# Altium schematic symbol library Interface_ICs.SchLib: 17 symbols
Pins are listed as number, name and electrical type; pins without a type are passive.

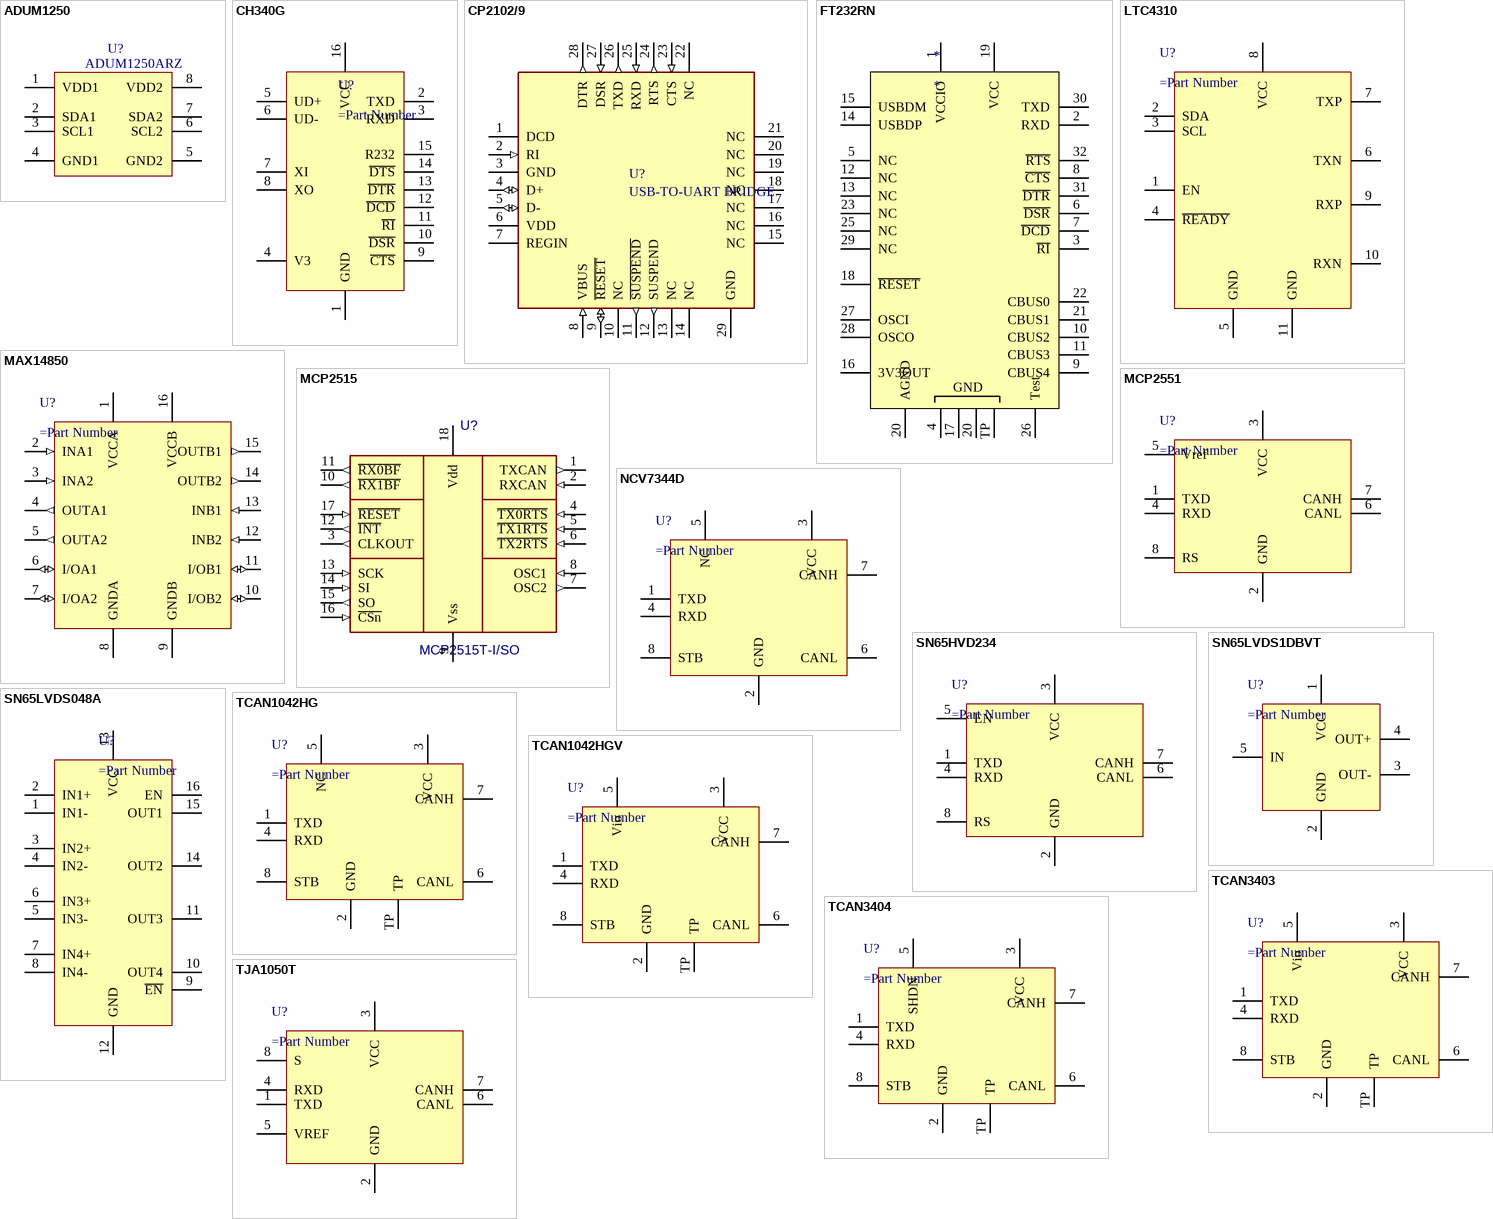
[diagram p0: symbols ADUM1250 to TJA1050T]

## ADUM1250
designator U?, comment ADUM1250ARZ
pins: 1 VDD1, 2 SDA1, 3 SCL1, 4 GND1, 5 GND2, 6 SCL2, 7 SDA2, 8 VDD2

## CH340G
designator U?
pins: 1 GND, 2 TXD, 3 RXD, 4 V3, 5 UD+, 6 UD-, 7 XI, 8 XO, 9 ~{CTS}, 10 ~{DSR}, 11 ~{RI}, 12 ~{DCD}, 13 ~{DTR}, 14 ~{DTS}, 15 R232, 16 VCC

## CP2102/9
designator U?, comment USB-TO-UART BRIDGE
Voltage - Supply 3V ~ 3.6V / Current - Supply 20mA / Standards USB 2.0; Manufacturer: Silicon Lab; Supplier 1: Digi-Key; Supplier Part Number 1: 336-1160-1-ND; Case: QFN-28
footprint QFN50P480X480X80_HS-29N (QFN, 28-Leads, Body 4,80x4,80mm, Pitch 0,50mm, Thermal Pad 3,25x3,25mm, IPC Medium Density)
pins: 1 DCD, 2 RI (in) "Active low", 3 GND (power), 4 D+ (io), 5 D- (io), 6 VDD (power), 7 REGIN (power), 8 VBUS (in), 9 ~{RESET} (io), 10 NC, 11 ~{SUSPEND} (out), 12 SUSPEND (out), 13 NC, 14 NC, 15 NC, 16 NC, 17 NC, 18 NC, 19 NC, 20 NC, 21 NC, 22 NC, 23 CTS (in), 24 RTS (out), 25 RXD (in), 26 TXD (out), 27 DSR (in), 28 DTR (out), 29 GND (power)

## FT232RN
designator *
pins: 1 VCCIO, 2 RXD, 3 ~{RI}, 4 GND, 5 NC, 6 ~{DSR}, 7 ~{DCD}, 8 ~{CTS}, 9 CBUS4, 10 CBUS2, 11 CBUS3, 12 NC, 13 NC, 14 USBDP, 15 USBDM, 16 3V3OUT, 17 GND, 18 ~{RESET}, 19 VCC, 20 GND, 20 AGND, 21 CBUS1, 22 CBUS0, 23 NC, 25 NC, 26 Test, 27 OSCI, 28 OSCO, 29 NC, 30 TXD, 31 ~{DTR}, 32 ~{RTS}, TP GND

## LTC4310
designator U?
pins: 1 EN, 2 SDA, 3 SCL, 4 ~{READY}, 5 GND, 6 TXN, 7 TXP, 8 VCC, 9 RXP, 10 RXN, 11 GND

## MAX14850
designator U?
pins: 1 VCCA (power), 2 INA1 (in), 3 INA2 (in), 4 OUTA1 (out), 5 OUTA2 (out), 6 I/OA1 (io), 7 I/OA2 (io), 8 GNDA (power), 9 GNDB (power), 10 I/OB2 (io), 11 I/OB1 (io), 12 INB2 (in), 13 INB1 (in), 14 OUTB2 (out), 15 OUTB1 (out), 16 VCCB (power)

## MCP2515
designator U?, comment MCP2515T-I/SO
CANbus Controller CAN 2.0 SPI Interface 18-SOIC
pins: 1 TXCAN (out), 2 RXCAN (in), 3 CLKOUT (out), 4 ~{TX0RTS} (in), 5 ~{TX1RTS} (in), 6 ~{TX2RTS} (in), 7 OSC2 (out), 8 OSC1 (in), 9 Vss (power), 10 ~{RX1BF} (out), 11 ~{RX0BF} (out), 12 ~{INT} (out), 13 SCK (in), 14 SI (in), 15 SO (out), 16 ~{CSn} (in), 17 ~{RESET} (in), 18 Vdd (power)

## MCP2551
designator U?
pins: 1 TXD, 2 GND, 3 VCC, 4 RXD, 5 Vref, 6 CANL, 7 CANH, 8 RS

## NCV7344D
designator U?
pins: 1 TXD, 2 GND, 3 VCC, 4 RXD, 5 NC, 6 CANL, 7 CANH, 8 STB

## SN65HVD234
designator U?
pins: 1 TXD, 2 GND, 3 VCC, 4 RXD, 5 EN, 6 CANL, 7 CANH, 8 RS

## SN65LVDS1DBVT
designator U?
pins: 1 VCC, 2 GND, 3 OUT-, 4 OUT+, 5 IN

## SN65LVDS048A
designator U?
pins: 1 IN1-, 2 IN1+, 3 IN2+, 4 IN2-, 5 IN3-, 6 IN3+, 7 IN4+, 8 IN4-, 9 ~{EN}, 10 OUT4, 11 OUT3, 12 GND, 13 VCC, 14 OUT2, 15 OUT1, 16 EN

## TCAN1042HG
designator U?
pins: 1 TXD, 2 GND, 3 VCC, 4 RXD, 5 NC, 6 CANL, 7 CANH, 8 STB, TP

## TCAN1042HGV
designator U?
pins: 1 TXD, 2 GND, 3 VCC, 4 RXD, 5 Vio, 6 CANL, 7 CANH, 8 STB, TP

## TCAN3403
designator U?
pins: 1 TXD, 2 GND, 3 VCC, 4 RXD, 5 Vio, 6 CANL, 7 CANH, 8 STB, TP

## TCAN3404
designator U?
pins: 1 TXD, 2 GND, 3 VCC, 4 RXD, 5 SHDN, 6 CANL, 7 CANH, 8 STB, TP

## TJA1050T
designator U?
pins: 1 TXD, 2 GND, 3 VCC, 4 RXD, 5 VREF, 6 CANL, 7 CANH, 8 S